# EAGLE library part BQ77908A (library custom)
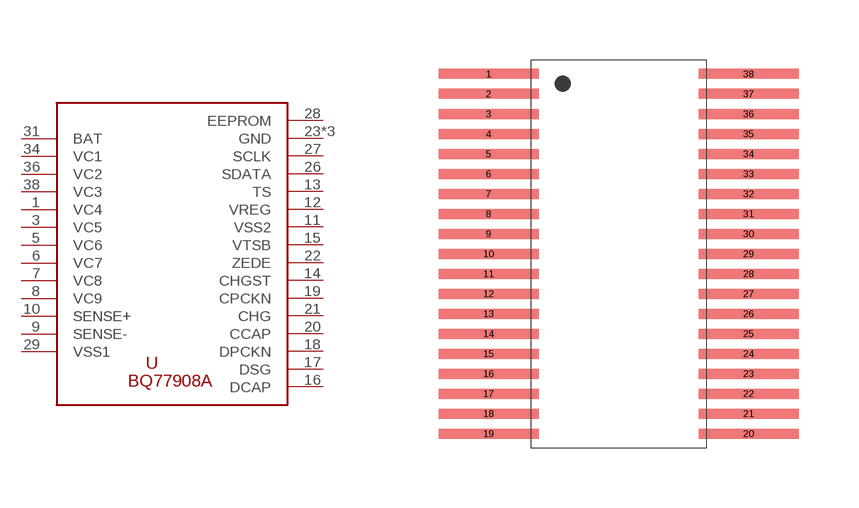
[diagram p1: symbol with the pads of TSSOP-38-0.5MM; footprint TSSOP-38-0.5MM]

Designator prefix -

## BQ77908A  [TSSOP-38-0.5MM]
1  VC4
3  VC5
5  VC6
6  VC7
7  VC8
8  VC9
9  SENSE-
10  SENSE+
11  VSS2
12  VREG
13  TS
14  CHGST
15  VTSB
16  DCAP
17  DSG
18  DPCKN
19  CPCKN
20  CCAP
21  CHG
22  ZEDE
23  GND
24  GND
25  GND
26  SDATA
27  SCLK
28  EEPROM
29  VSS1
31  BAT
34  VC1
36  VC2
38  VC3

## Footprint TSSOP-38-0.5MM (pad centres in mm)
smd 2.5 x 0.25: 1 -3.25,4.65; 2 -3.25,4.15; 3 -3.25,3.65; 4 -3.25,3.15; 5 -3.25,2.65; 6 -3.25,2.15; 7 -3.25,1.65; 8 -3.25,1.15; 9 -3.25,0.65; 10 -3.25,0.15; 11 -3.25,-0.35; 12 -3.25,-0.85; 13 -3.25,-1.35; 14 -3.25,-1.85; 15 -3.25,-2.35; 16 -3.25,-2.85; 17 -3.25,-3.35; 18 -3.25,-3.85; 19 -3.25,-4.35; 20 3.25,-4.35; 21 3.25,-3.85; 22 3.25,-3.35; 23 3.25,-2.85; 24 3.25,-2.35; 25 3.25,-1.85; 26 3.25,-1.35; 27 3.25,-0.85; 28 3.25,-0.35; 29 3.25,0.15; 30 3.25,0.65; 31 3.25,1.15; 32 3.25,1.65; 33 3.25,2.15; 34 3.25,2.65; 35 3.25,3.15; 36 3.25,3.65; 37 3.25,4.15; 38 3.25,4.65